# Altium footprint library NON-PCB.PCBLIB: 33 footprints (part 2 of 3)
Each footprint in its own frame and in the unit in brackets; x right, y up, seen from the top. Pads: shape width x height; smd on the part's side, far side on the other; paste and mask are expansions set on the pad; w line width, h text height; cw(c..) or ccw(c..) is an arc to the next point about the centre after c.
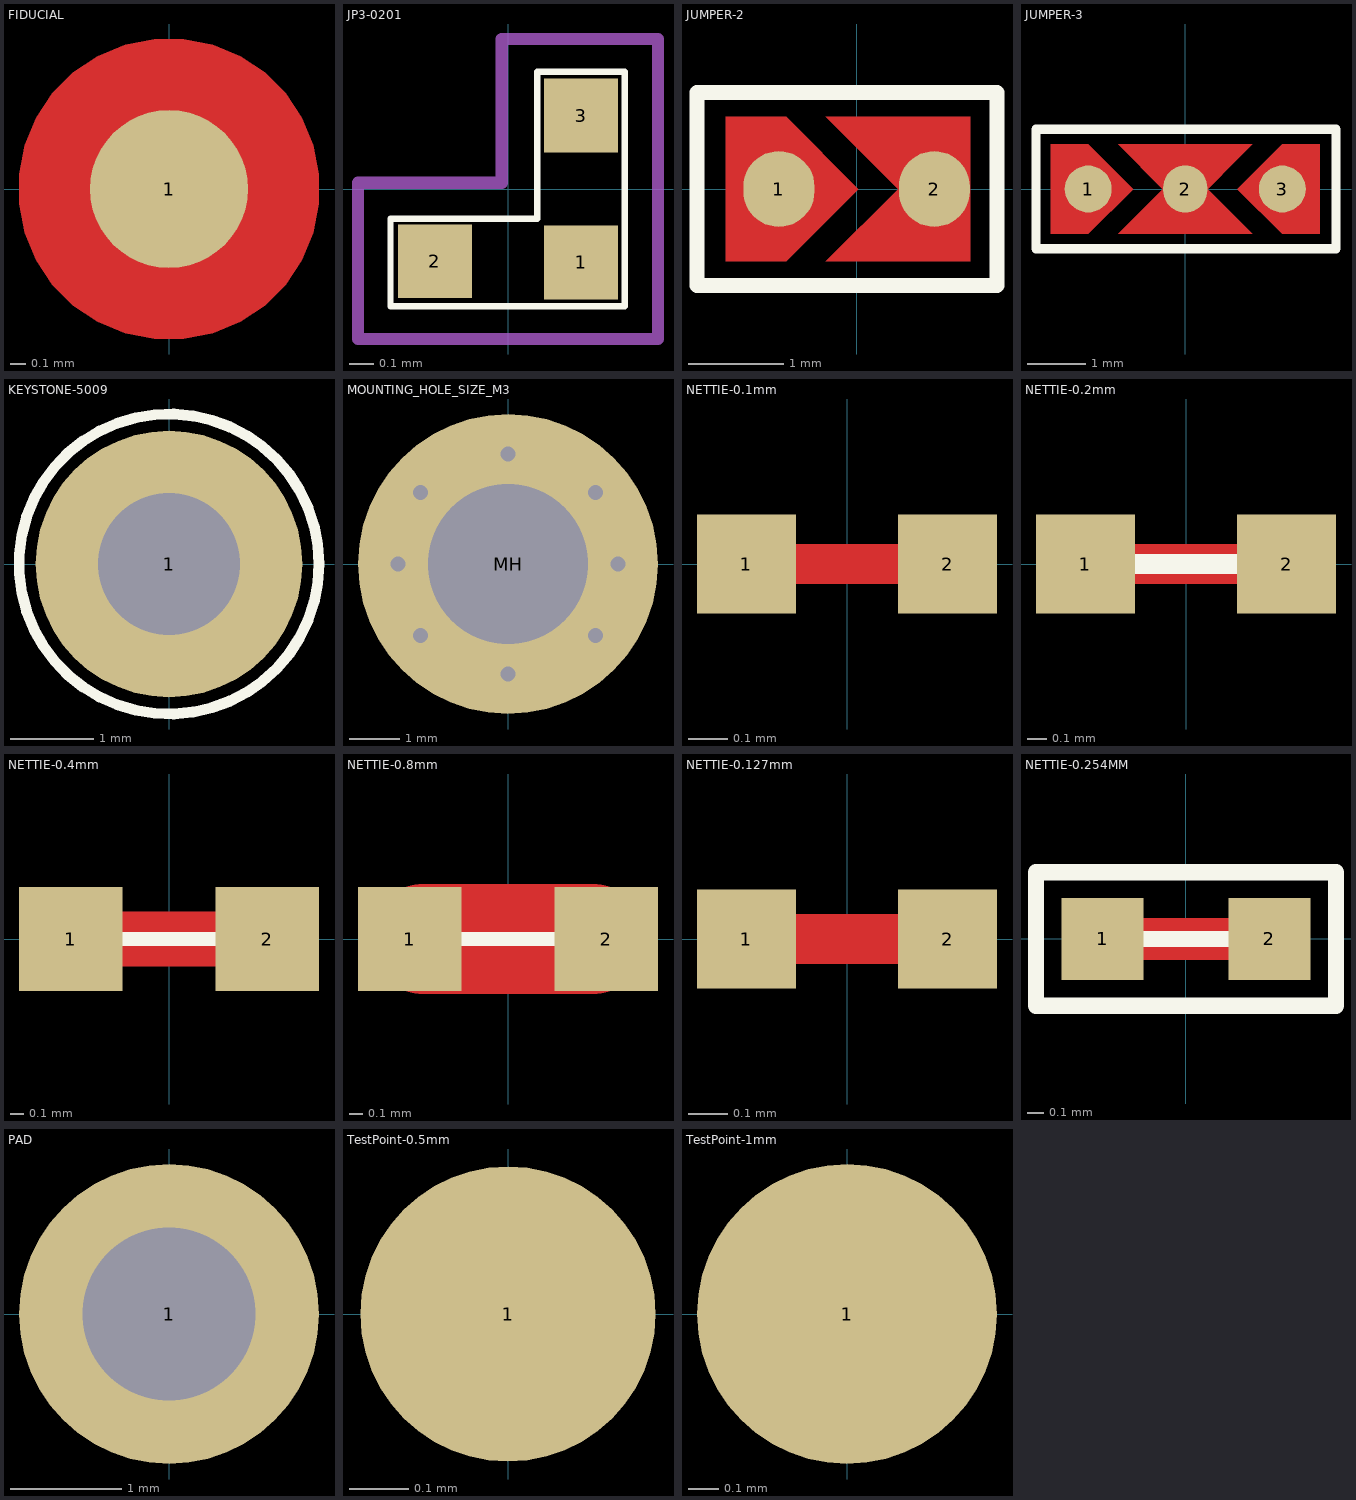
[diagram p1: the footprints below, top view; thin cyan lines are the x and y axes]

## FIDUCIAL [mm]
pads (1):
  round 1 smd mask+0.4: 1(0,0)
Top Layer:
  pour cut-out: 0,0.95 0.094,0.95 0.277,0.914 0.45,0.842 0.606,0.738 0.672,0.672 0.738,0.606 0.842,0.45 0.914,0.277 0.95,0.094 0.95,0 0.95,-0.094 0.914,-0.277 0.842,-0.45 0.738,-0.606 0.672,-0.672 0.606,-0.738 0.45,-0.842 0.277,-0.914 0.094,-0.95 0,-0.95 -0.094,-0.95 -0.277,-0.914 -0.45,-0.842 -0.606,-0.738 -0.672,-0.672 -0.738,-0.606 -0.842,-0.45 -0.914,-0.277 -0.95,-0.094 -0.95,0 -0.95,0.094 -0.914,0.277 -0.842,0.45 -0.738,0.606 -0.672,0.672 -0.606,0.738 -0.45,0.842 -0.277,0.914 -0.094,0.95 0,0.95

## JP3-0201 [mm]
pads (3):
  rect 0.3x0.3 smd: 1(0.297,-0.298) 2(-0.297,-0.293) 3(0.297,0.298)
Top Overlay:
  lines w0.025: -0.478,-0.476 -0.478,-0.121 0.119,-0.121 0.119,0.476 0.386,0.476 0.475,0.476 0.475,-0.476 -0.478,-0.476
Mechanical 15:
  lines w0.05: -0.61,-0.61 -0.61,0.025 -0.025,0.025 -0.025,0.61 0.61,0.61 0.61,-0.61 -0.61,-0.61

## JUMPER-2 [mm]
pads (2):
  oval 0.75x0.8 smd: 1(-0.819,0) 2(0.819,0)
Top Layer:
  region: -1.378,-0.762 -1.378,0.762 -0.743,0.762 0.019,0 -0.743,-0.762
  region: -0.324,-0.762 0.438,0 -0.324,0.762 1.2,0.762 1.2,0 1.2,-0.381 1.2,-0.762
Top Overlay:
  lines w0.16: -1.683,-1.016 1.48,-1.016 1.48,1.016 -1.683,1.016 -1.683,-1.016

## JUMPER-3 [mm]
pads (3):
  round 0.8 smd: 1(-1.651,0) 3(1.651,0)
  oval 0.75x0.8 smd: 2(0,0)
Top Layer:
  region: -2.286,-0.762 -2.286,0.762 -1.651,0.762 -0.889,0 -1.651,-0.762
  region: -1.143,-0.762 -0.381,0 -1.143,0.762 1.143,0.762 0.889,0.508 0.381,0 1.143,-0.762
  region: 2.286,-0.762 2.286,0.762 1.651,0.762 0.889,0 1.651,-0.762
Top Overlay:
  lines w0.16: -2.54,-1.016 -2.54,1.016 2.565,1.016 2.565,-1.016 -2.54,-1.016

## KEYSTONE-5009 [mm] "PC TEST POINT MULTI PURP YELLOW"
pads (1):
  round 3.2 hole 1.7 mask+0.05: 1(0,0)
Top Overlay:
  circle w0.13: c0,0 r1.8
3D body "keystone-PN5009.STEP": height 5.57, standoff -3.34, extent -1.577,-1.596 1.598,1.579

## MOUNTING_HOLE_SIZE_M3 [mm]
pads (1):
  round 6 hole 3.2: MH(0,0)
via 0,2.2 diameter 0.6 hole 0.3
via 1.75,1.425 diameter 0.6 hole 0.3
via -1.75,1.425 diameter 0.6 hole 0.3
via 0,-2.2 diameter 0.6 hole 0.3
via -1.75,-1.425 diameter 0.6 hole 0.3
via 1.75,-1.425 diameter 0.6 hole 0.3
via -2.2,0 diameter 0.6 hole 0.3
via 2.2,0 diameter 0.6 hole 0.3

## N/A [mm]

## NETTIE-0.1mm [mm]
pads (2):
  rect 0.25x0.25 smd: 1(-0.254,0) 2(0.254,0)
Top Layer:
  lines w0.1: -0.254,0 0.254,0

## NETTIE-0.2mm [mm]
pads (2):
  rect 0.5x0.5 smd: 1(-0.508,0) 2(0.508,0)
Top Layer:
  lines w0.2: -0.508,0 0.508,0
Top Overlay:
  circle w0.254: c-0.508,0 r0.036
  circle w0.254: c0.508,0 r0.036
  lines w0.1: -0.472,0 0.544,0

## NETTIE-0.4mm [mm]
pads (2):
  rect 0.75x0.75 smd: 1(-0.711,0) 2(0.711,0)
Top Layer:
  lines w0.4: -0.711,0 0.711,0
Top Overlay:
  circle w0.254: c0.711,0 r0.036
  circle w0.254: c-0.711,0 r0.036
  lines w0.1: -0.711,0 0.711,0

## NETTIE-0.8mm [mm]
pads (2):
  rect 0.75x0.75 smd: 1(-0.711,0) 2(0.711,0)
Top Layer:
  lines w0.8: -0.61,0 0.61,0
Top Overlay:
  circle w0.254: c0.737,0 r0.036
  circle w0.254: c-0.711,0 r0.036
  lines w0.1: -0.711,0 0.737,0

## NETTIE-0.127mm [mm]
pads (2):
  rect 0.25x0.25 smd: 1(-0.254,0) 2(0.254,0)
Top Layer:
  lines w0.127: -0.254,0 0.254,0

## NETTIE-0.254MM [mm]
pads (2):
  rect 0.5x0.5 smd: 1(-0.508,0) 2(0.508,0)
Top Layer:
  lines w0.254: -0.508,0 0.508,0
Top Overlay:
  circle w0.254: c-0.508,0 r0.036
  circle w0.254: c0.508,0 r0.036
  lines w0.1: -0.472,0 0.544,0 ; -0.914,-0.406 -0.914,0.406 0.914,0.406 0.914,-0.406 -0.914,-0.406

## PAD [mm]
pads (1):
  round 2.7 hole 1.56 mask+0.05: 1(0,0)

## TestPoint-0.5mm [mm]
pads (1):
  round 0.5 smd: 1(0,0)
3D body: height 0.1, standoff 0, extent -0.25,-0.25 0.25,0.25

## TestPoint-1mm [mm]
pads (1):
  round 1 smd: 1(0,0)
3D body: height 0.1, standoff 0, extent -0.5,-0.5 0.5,0.5